# EAGLE library part TMP101NA/3K (library U-TI-TMP101-TempSensor)
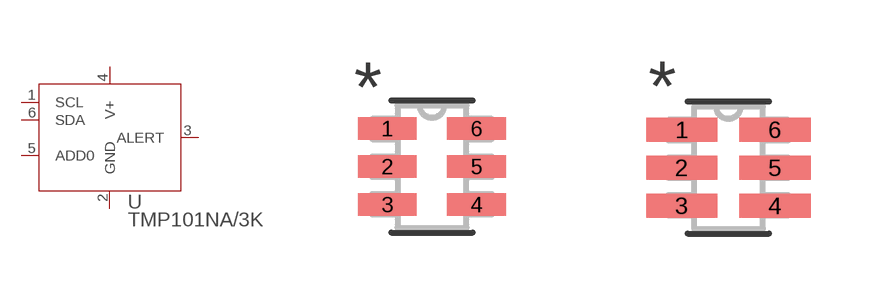
[diagram p0: symbol with the pads of DBV6; footprints DBV6, DBV6-M]

Designator prefix U

## TMP101NA/3K (MANUFACTURER_PART_NUMBER: TMP101NA3K; VENDOR: Texas Instruments)  [DBV6]
1  SCL  in
2  GND  pwr
3  ALERT  out
4  V+  pwr
5  ADD0  in
6  SDA  oc

## TMP101NA/3KDBV6-M (MANUFACTURER_PART_NUMBER: TMP101NA3K; VENDOR: Texas Instruments)  [DBV6-M]
Pads as for DBV6

## TMP101NA/3KDBV6-L (MANUFACTURER_PART_NUMBER: TMP101NA3K; VENDOR: Texas Instruments)  [DBV6-L]
Pads as for DBV6

## TMP101NA/3KSLOTTED  [DBV6-SLOT]
1  V+  pwr
2  ADD0  in
3  SDA  oc
4  SCL  in
5  GND  pwr
6  ALERT  out

## Footprint DBV6 (pad centres in mm)
smd 1.473 x 0.559: 1 -1.118,0.95; 2 -1.118,0; 3 -1.118,-0.95; 4 1.118,-0.95; 5 1.118,0; 6 1.118,0.95

## Footprint DBV6-M (pad centres in mm)
smd 1.778 x 0.61: 1 -1.168,0.95; 2 -1.168,0; 3 -1.168,-0.95; 4 1.168,-0.95; 5 1.168,0; 6 1.168,0.95

## Footprint DBV6-L (pad centres in mm)
smd 1.168 x 0.508: 1 -1.067,0.95; 2 -1.067,0; 3 -1.067,-0.95; 4 1.067,-0.95; 5 1.067,0; 6 1.067,0.95

## Footprint DBV6-SLOT (pad centres in mm)
**README I AM IMPORTANT** This variant of the chip is specifically designed to be soldered upside down with the package fitting inside the board so that it will be able to get a more accurate reading of the actual solar array temperature. The pinouts are flipped to accomodate this. DO NOT use if the part is to be placed rightside up.
smd 1.1 x 0.6: 1 1.75,0.95; 2 1.75,0; 3 1.75,-0.95; 4 -1.75,-0.95; 5 -1.75,0; 6 -1.75,0.95